# Altium schematic symbol library NTC_PTC.SchLib: 2 symbols
Pins are listed as number, name and electrical type; pins without a type are passive.

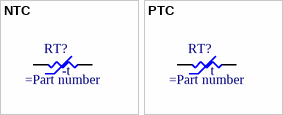
[diagram p0: symbols NTC to PTC]

## NTC
designator RT?
pins: 1, 2
text: -t

## PTC
designator RT?
pins: 1, 2
text: t